# Altium footprint library DFN-8 (2x2) 0.45mm.PcbLib: 1 footprints
Each footprint in its own frame and in the unit in brackets; x right, y up, seen from the top. Pads: shape width x height; smd on the part's side, far side on the other; paste and mask are expansions set on the pad; w line width, h text height; cw(c..) or ccw(c..) is an arc to the next point about the centre after c.
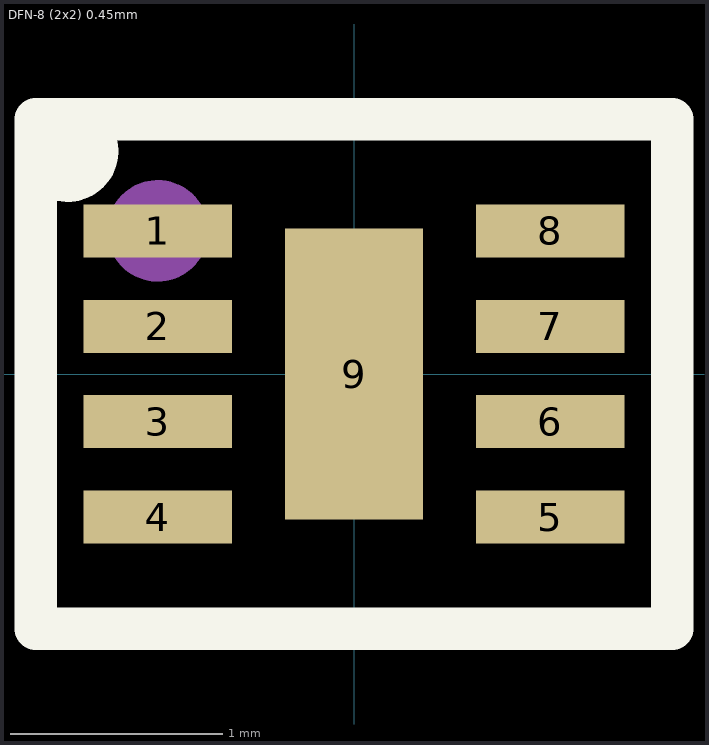
[diagram p0: the footprint, top view; thin cyan lines are the x and y axes]

## DFN-8 (2x2) 0.45mm [mm]
pads (9):
  rect 0.7x0.25 smd mask+0.05: 1(-0.925,0.675) 2(-0.925,0.225) 3(-0.925,-0.225) 4(-0.925,-0.675) 5(0.925,-0.675) 6(0.925,-0.225) 7(0.925,0.225) 8(0.925,0.675)
  rect 0.65x1.37 smd mask+0.05: 9(0,0)
Top Overlay:
  circle w0.254: c-1.35,1.05 r0.112
  lines w0.2: -1.5,-1.2 1.5,-1.2 1.5,1.2 -1.5,1.2 -1.5,-1.2
Top Assembly:
  circle w0.254: c-0.925,0.675 r0.112
  lines w0.1: -1.5,-1.2 -1.5,1.2 1.5,1.2 1.5,-1.2 -1.5,-1.2
  text "'.Designator'" at 0,0 h0.7
3D body "User Library-DFN 8.step": height 0.75, standoff -0.05, extent -1.001,-1 1.001,1